# Altium footprint library 6sot563.PcbLib: 1 footprints
Each footprint in its own frame and in the unit in brackets; x right, y up, seen from the top. Pads: shape width x height; smd on the part's side, far side on the other; paste and mask are expansions set on the pad; w line width, h text height; cw(c..) or ccw(c..) is an arc to the next point about the centre after c.
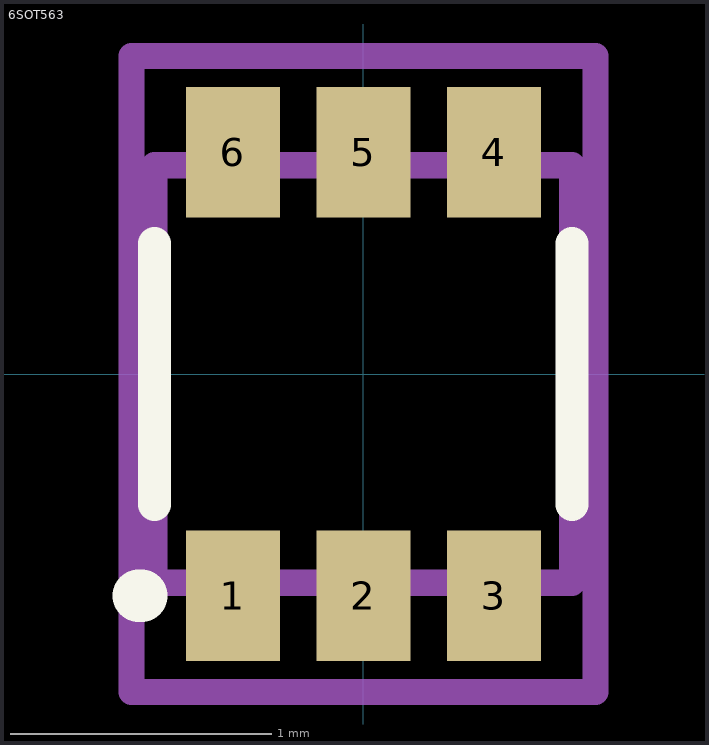
[diagram p0: the footprint, top view; thin cyan lines are the x and y axes]

## 6SOT563 [mm] "SOT563, 6-Leads, Body 1.25x1.7mm (max), Pitch 0.5mm, IPC High Density"
height 0.6
pads (6):
  rect 0.36x0.5 smd: 1(-0.5,-0.85) 2(0,-0.85) 3(0.5,-0.85) 4(0.5,0.85) 5(0,0.85) 6(-0.5,0.85)
Top Overlay:
  lines w0.127: -0.8,-0.5 -0.8,0.5 ; 0.8,-0.5 0.8,0.5
  lines w0.2: -0.861,-0.849 cw(c-0.861,-0.949) -0.85,-0.85
Top 3D Body:
  lines w0.1: -0.8,-0.8 -0.8,0.8 0.8,0.8 0.8,-0.8 -0.8,-0.8
Top Courtyard:
  lines w0.1: -0.889,-1.219 -0.889,1.219 0.889,1.219 0.889,-1.219 -0.889,-1.219
Top Designator (Mech17):
  text ".Designator" at -0.675,-0.15 h0.76
3D body "SW3dPS-SOT-563.STEP": height 0.58, standoff 0, extent -0.8,-0.813 0.8,0.813